# Altium footprint library PCB - CONNECTOR - MOLEX - MOLEX 1053131107.PcbLib: 1 footprints
Each footprint in its own frame and in the unit in brackets; x right, y up, seen from the top. Pads: shape width x height; smd on the part's side, far side on the other; paste and mask are expansions set on the pad; w line width, h text height; cw(c..) or ccw(c..) is an arc to the next point about the centre after c.
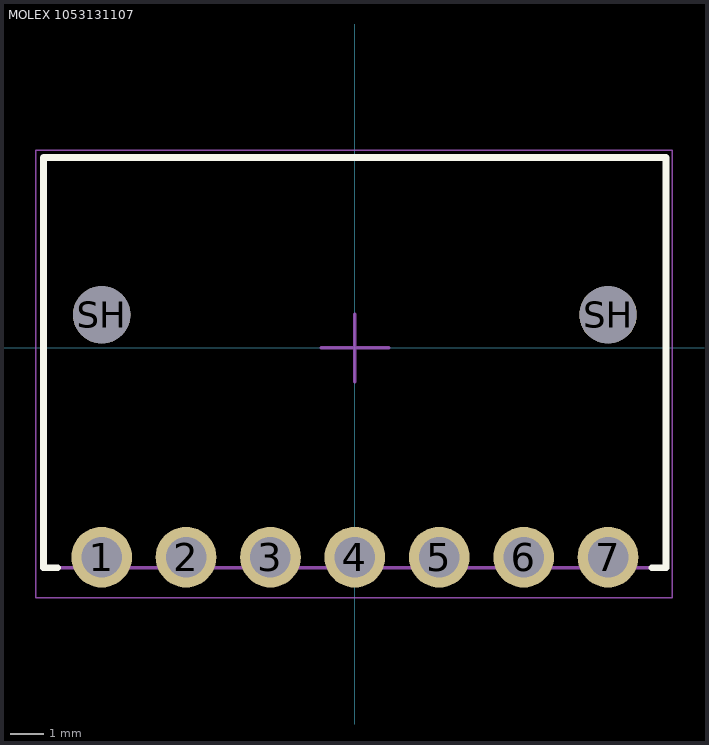
[diagram p0: the footprint, top view; thin cyan lines are the x and y axes]

## MOLEX 1053131107 [mm] "Connector Header Through Hole, Right Angle 7 position, 2mm Pitch, 18.44x8.64 mm Body"
height 6.64
pads (9):
  round 1.8 hole 1.2: 1(-7.5,-6.2) 2(-5,-6.2) 3(-2.5,-6.2) 4(0,-6.2) 5(2.5,-6.2) 6(5,-6.2) 7(7.5,-6.2)
  round 1.7 hole 1.7: SH(-7.5,0.98) SH(7.5,0.98)
Top Overlay:
  lines w0.2: -8.8,-6.517 -9.22,-6.517 -9.22,5.64 9.22,5.64 9.22,-6.517 8.8,-6.517
Mechanical 1:
  lines w0.1: -9.22,-6.517 -9.22,5.64 9.22,5.64 9.22,-6.517 -9.22,-6.517
Mechanical 15 (Mech15):
  lines w0.05: -9.45,-7.4 -9.45,5.85 9.4,5.85 9.4,-7.4 -9.45,-7.4
  lines w0.1: -1,0 0,0 ; 0,-1 0,0 ; 0,1 0,0 ; 1,0 0,0
3D body: height 6.64, standoff -3.2, extent -9.22,-6.517 9.22,5.64